# EAGLE library part M83-LMT1M2N27 (library BrownSpaceEngineering)
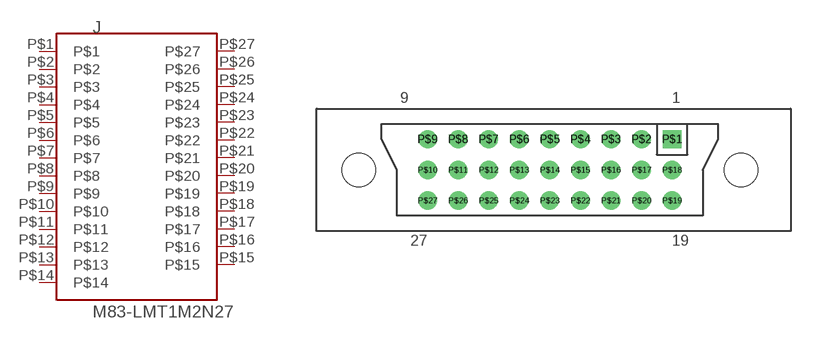
[diagram p24: symbol with the pads of M83-LMT1M2N27; footprint M83-LMT1M2N27]

Designator prefix J

## M83-LMT1M2N27  [M83-LMT1M2N27]
P$1  P$1
P$2  P$2
P$3  P$3
P$4  P$4
P$5  P$5
P$6  P$6
P$7  P$7
P$8  P$8
P$9  P$9
P$10  P$10
P$11  P$11
P$12  P$12
P$13  P$13
P$14  P$14
P$15  P$15
P$16  P$16
P$17  P$17
P$18  P$18
P$19  P$19
P$20  P$20
P$21  P$21
P$22  P$22
P$23  P$23
P$24  P$24
P$25  P$25
P$26  P$26
P$27  P$27

## Footprint M83-LMT1M2N27 (pad centres in mm)
drill 0.7 square: P$1 0,0
drill 0.7: P$2 -2,0; P$3 -4,0; P$4 -6,0; P$5 -8,0; P$6 -10,0; P$7 -12,0; P$8 -14,0; P$9 -16,0; P$10 -16,-2; P$11 -14,-2; P$12 -12,-2; P$13 -10,-2; P$14 -8,-2; P$15 -6,-2; P$16 -4,-2; P$17 -2,-2; P$18 0,-2; P$19 0,-4; P$20 -2,-4; P$21 -4,-4; P$22 -6,-4; P$23 -8,-4; P$24 -10,-4; P$25 -12,-4; P$26 -14,-4; P$27 -16,-4
hole 2.2 at 4.5,-2
hole 2.2 at -20.5,-2